# EAGLE library part PF2X5 (library A_CONN)
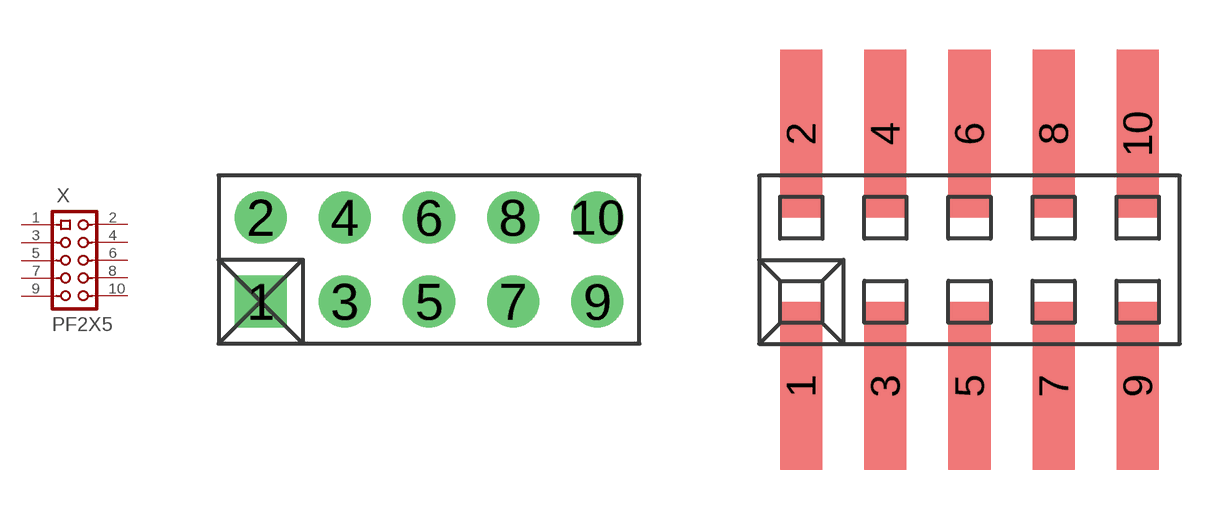
[diagram p0: symbol with the pads of PF2X5; footprints PF2X5, PF2X5SMD]

Designator prefix X

## PF2X5  [PF2X5]
1  1  pas
2  2  pas
3  3  pas
4  4  pas
5  5  pas
6  6  pas
7  7  pas
8  8  pas
9  9  pas
10  10  pas

## PF2X5SMD  [PF2X5SMD]
Pads as for PF2X5

## PF2X5SMD1.27MM  [PF2X5SMD50MIL]
Pads as for PF2X5

## Footprint PF2X5 (pad centres in mm)
drill 0.991 pad 1.575 square: 1 0,0
drill 0.991 pad 1.575: 2 0,2.54; 3 2.54,0; 4 2.54,2.54; 5 5.08,0; 6 5.08,2.54; 7 7.62,0; 8 7.62,2.54; 9 10.16,0; 10 10.16,2.54

## Footprint PF2X5SMD (pad centres in mm)
smd 1.27 x 5.08: 1 -5.08,-3.81; 2 -5.08,3.81; 3 -2.54,-3.81; 4 -2.54,3.81; 5 0,-3.81; 6 0,3.81; 7 2.54,-3.81; 8 2.54,3.81; 9 5.08,-3.81; 10 5.08,3.81

## Footprint PF2X5SMD50MIL (pad centres in mm)
smd 0.7 x 2.4: 1 -2.54,-1.95; 2 -2.54,1.95; 3 -1.27,-1.95; 4 -1.27,1.95; 5 0,-1.95; 6 0,1.95; 7 1.27,-1.95; 8 1.27,1.95; 9 2.54,-1.95; 10 2.54,1.95
hole 0.8 at -1.905,0
hole 0.8 at 1.905,0